# Altium footprint library SparkFun-Connectors.PCBLIB: 327 footprints (part 12 of 21)
Each footprint in its own frame and in the unit in brackets; x right, y up, seen from the top. Pads: shape width x height; smd on the part's side, far side on the other; paste and mask are expansions set on the pad; w line width, h text height; cw(c..) or ccw(c..) is an arc to the next point about the centre after c.
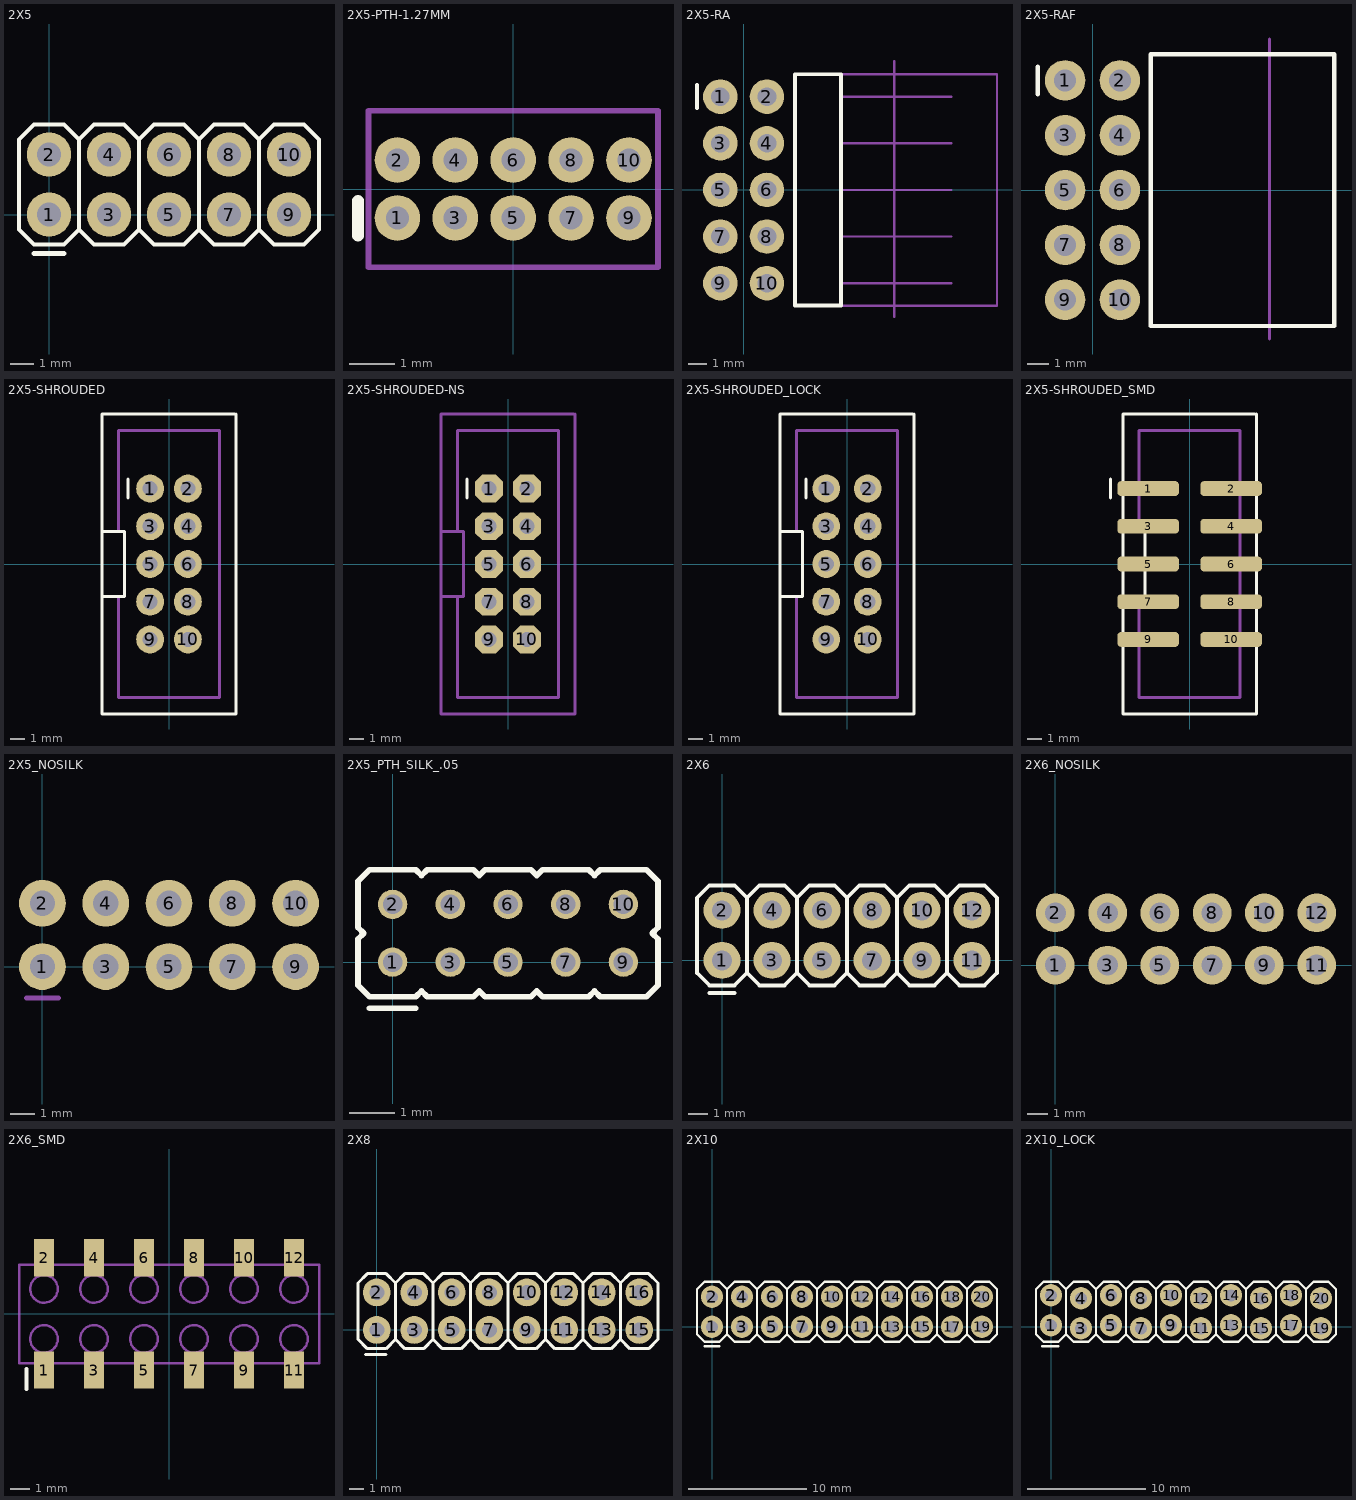
[diagram p11: the footprints below, top view; thin cyan lines are the x and y axes]

## 2X5 [mil]
pads (10):
  round 74 hole 40: 1(0,0) 2(0,100) 3(100,0) 4(100,100) 5(200,0) 6(200,100) 7(300,0) 8(300,100) 9(400,0) 10(400,100)
Top Overlay:
  lines w6: 50,-25 25,-50 -25,-50 -50,-25 -50,125 -25,150 25,150 50,125 ; 50,-25 75,-50 125,-50 150,-25 ; 50,-25 50,125 ; 50,125 75,150 125,150 150,125 ; 150,-25 175,-50 225,-50 250,-25 ; 150,-25 150,125 ; 150,125 175,150 225,150 250,125 ; 250,-25 275,-50 325,-50 350,-25 ; 250,-25 250,125 ; 250,125 275,150 325,150 350,125 ; 350,-25 350,125 ; 350,-25 375,-50 425,-50 450,-25 450,125 425,150 375,150 350,125
  lines w8: -25,-65 25,-65
Bottom Overlay:
  lines w8: -25,-65 25,-65
Mechanical 16:
  region: 10,-10 10,10 -10,10 -10,-10
  region: 10,90 10,110 -10,110 -10,90
  region: 110,90 110,110 90,110 90,90
  region: 110,-10 110,10 90,10 90,-10
  region: 210,90 210,110 190,110 190,90
  region: 210,-10 210,10 190,10 190,-10
  region: 410,90 410,110 390,110 390,90
  region: 410,-10 410,10 390,10 390,-10
  region: 310,-10 310,10 290,10 290,-10
  region: 310,90 310,110 290,110 290,90

## 2X5-PTH-1.27MM [mm]
pads (10):
  round 1 hole 0.508: 1(-2.54,-0.635) 2(-2.54,0.635) 3(-1.27,-0.635) 4(-1.27,0.635) 5(0,-0.635) 6(0,0.635) 7(1.27,-0.635) 8(1.27,0.635) 9(2.54,-0.635) 10(2.54,0.635)
Top Overlay:
  lines w0.254: -3.403,-1.021 -3.403,-0.259
Mechanical 16:
  lines w0.127: -3.175,-1.715 -3.175,1.715 3.175,1.715 3.175,-1.715 -3.175,-1.715

## 2X5-RA [mil]
pads (10):
  round 74 hole 40: 1(-50,200) 2(50,200) 3(-50,100) 4(50,100) 5(-50,0) 6(50,0) 7(-50,-100) 8(50,-100) 9(-50,-200) 10(50,-200)
Top Overlay:
  lines w8: -100,175 -100,225 ; 110.24,-248.03 208.66,-248.03 208.66,248.03 110.24,248.03 110.24,-248.03
Bottom Overlay:
  lines w8: -100,175 -100,225
Mechanical 16:
  region: -60,210 -60,190 -40,190 -40,210
  region: 40,210 40,190 60,190 60,210
  region: 40,110 40,90 60,90 60,110
  region: -60,110 -60,90 -40,90 -40,110
  region: 40,10 40,-10 60,-10 60,10
  region: -60,10 -60,-10 -40,-10 -40,10
  region: 40,-90 40,-110 60,-110 60,-90
  region: -60,-90 -60,-110 -40,-110 -40,-90
  region: 40,-190 40,-210 60,-210 60,-190
  region: -60,-190 -60,-210 -40,-210 -40,-190
  region: -60,-90 -60,-110 -40,-110 -40,-90
  region: 40,-90 40,-110 60,-110 60,-90
  lines w5: 208.66,-248.03 543.31,-248.03 543.31,248.03 208.66,248.03 ; 208.66,-200 444.88,-200 ; 208.66,-100 444.88,-100 ; 208.66,0 444.88,0 ; 208.66,100 444.88,100 ; 208.66,200 444.88,200 ; 322.83,-271.65 322.83,275.59

## 2X5-RAF [mil]
pads (10):
  round 74 hole 40: 1(-50,200) 2(50,200) 3(-50,100) 4(50,100) 5(-50,0) 6(50,0) 7(-50,-100) 8(50,-100) 9(-50,-200) 10(50,-200)
Top Overlay:
  lines w8: -100,175 -100,225 ; 106.3,-248.03 440.94,-248.03 440.94,248.03 106.3,248.03 106.3,-248.03
Bottom Overlay:
  lines w8: -100,175 -100,225
Mechanical 16:
  region: -60,210 -60,190 -40,190 -40,210
  region: 40,210 40,190 60,190 60,210
  region: 40,110 40,90 60,90 60,110
  region: -60,110 -60,90 -40,90 -40,110
  region: 40,10 40,-10 60,-10 60,10
  region: -60,10 -60,-10 -40,-10 -40,10
  region: 40,-90 40,-110 60,-110 60,-90
  region: -60,-90 -60,-110 -40,-110 -40,-90
  region: 40,-190 40,-210 60,-210 60,-190
  region: -60,-190 -60,-210 -40,-210 -40,-190
  region: -60,-90 -60,-110 -40,-110 -40,-90
  region: 40,-90 40,-110 60,-110 60,-90
  lines w5: 322.83,-271.65 322.83,275.59

## 2X5-SHROUDED [mil]
pads (10):
  round 74 hole 40: 1(-50,200) 2(50,200) 3(-50,100) 4(50,100) 5(-50,0) 6(50,0) 7(-50,-100) 8(50,-100) 9(-50,-200) 10(50,-200)
Top Overlay:
  lines w8: -109.25,175 -109.25,225 ; 173.23,397.64 -177.17,397.64 -177.17,86.61 ; 177.17,397.64 177.17,-397.64 -177.17,-397.64 -177.17,-86.61 ; -177.17,-86.61 -177.17,86.61 ; -177.17,-86.61 -118.11,-86.61 -118.11,86.61 -177.17,86.61
Bottom Overlay:
  lines w8: -110.75,175 -110.75,225
Mechanical 16:
  rectangle: -60,190 -40,210
  rectangle: 40,190 60,210
  rectangle: 40,90 60,110
  rectangle: -60,90 -40,110
  rectangle: 40,-10 60,10
  rectangle: -60,-10 -40,10
  rectangle: 40,-110 60,-90
  rectangle: -60,-110 -40,-90
  rectangle: 40,-210 60,-190
  rectangle: -60,-210 -40,-190
  rectangle: -60,-110 -40,-90
  rectangle: 40,-110 60,-90
  lines w8: -133.86,-86.61 -133.86,-354.33 133.86,-354.33 133.86,354.33 -133.86,354.33 -133.86,86.61

## 2X5-SHROUDED-NS [mil]
pads (10):
  oct 74x74 hole 40: 1(-50,200) 2(50,200) 3(-50,100) 4(50,100) 5(-50,0) 6(50,0) 7(-50,-100) 8(50,-100) 9(-50,-200) 10(50,-200)
Top Overlay:
  lines w8: -109.25,175 -109.25,225
Bottom Overlay:
  lines w8: -110.75,175 -110.75,225
Mechanical 16:
  rectangle: -60,190 -40,210
  rectangle: 40,190 60,210
  rectangle: 40,90 60,110
  rectangle: -60,90 -40,110
  rectangle: 40,-10 60,10
  rectangle: -60,-10 -40,10
  rectangle: 40,-110 60,-90
  rectangle: -60,-110 -40,-90
  rectangle: 40,-210 60,-190
  rectangle: -60,-210 -40,-190
  rectangle: -60,-110 -40,-90
  rectangle: 40,-110 60,-90
  lines w8: -133.86,-86.61 -133.86,-354.33 133.86,-354.33 133.86,354.33 -133.86,354.33 -133.86,86.61 ; 173.23,397.64 -177.17,397.64 -177.17,86.61 ; 177.17,397.64 177.17,-397.64 -177.17,-397.64 -177.17,-86.61 ; -177.17,-86.61 -177.17,86.61 ; -177.17,-86.61 -118.11,-86.61 -118.11,86.61 -177.17,86.61

## 2X5-SHROUDED_LOCK [mil]
pads (10):
  round 74 hole 40: 1(-55,200) 2(55,200) 3(-55,100) 4(55,100) 5(-55,0) 6(55,0) 7(-55,-100) 8(55,-100) 9(-55,-200) 10(55,-200)
Top Overlay:
  lines w8: -109.25,175 -109.25,225 ; 173.23,397.64 -177.17,397.64 -177.17,86.61 ; 177.17,397.64 177.17,-397.64 -177.17,-397.64 -177.17,-86.61 ; -177.17,-86.61 -177.17,86.61 ; -177.17,-86.61 -118.11,-86.61 -118.11,86.61 -177.17,86.61
Bottom Overlay:
  lines w8: -110.75,175 -110.75,225
Mechanical 16:
  region: -60,210 -60,190 -40,190 -40,210
  region: 40,210 40,190 60,190 60,210
  region: 40,110 40,90 60,90 60,110
  region: -60,110 -60,90 -40,90 -40,110
  region: 40,10 40,-10 60,-10 60,10
  region: -60,10 -60,-10 -40,-10 -40,10
  region: 40,-90 40,-110 60,-110 60,-90
  region: -60,-90 -60,-110 -40,-110 -40,-90
  region: 40,-190 40,-210 60,-210 60,-190
  region: -60,-190 -60,-210 -40,-210 -40,-190
  region: -60,-90 -60,-110 -40,-110 -40,-90
  region: 40,-90 40,-110 60,-110 60,-90
  lines w8: -133.86,-86.61 -133.86,-354.33 133.86,-354.33 133.86,354.33 -133.86,354.33 -133.86,86.61

## 2X5-SHROUDED_SMD [mil]
pads (10):
  rrect50% 163.39x39.37 smd: 1(-110,200) 2(110,200) 3(-110,100) 4(110,100) 5(-110,0) 6(110,0) 7(-110,-100) 8(110,-100) 9(-110,-200) 10(110,-200)
Top Overlay:
  lines w8: -209.25,175 -209.25,225 ; 173.23,397.64 -177.17,397.64 -177.17,86.61 ; 177.17,397.64 177.17,-397.64 -177.17,-397.64 -177.17,-86.61 ; -177.17,-86.61 -177.17,86.61 ; -177.17,-86.61 -118.11,-86.61 -118.11,86.61 -177.17,86.61
Bottom Overlay:
  lines w8: -210.75,175 -210.75,225
Mechanical 16:
  rectangle: -60,190 -40,210
  rectangle: 40,190 60,210
  rectangle: 40,90 60,110
  rectangle: -60,90 -40,110
  rectangle: 40,-10 60,10
  rectangle: -60,-10 -40,10
  rectangle: 40,-110 60,-90
  rectangle: -60,-110 -40,-90
  rectangle: 40,-210 60,-190
  rectangle: -60,-210 -40,-190
  rectangle: -60,-110 -40,-90
  rectangle: 40,-110 60,-90
  lines w8: -133.86,-86.61 -133.86,-354.33 133.86,-354.33 133.86,354.33 -133.86,354.33 -133.86,86.61

## 2X5_NOSILK [mil]
pads (10):
  round 74 hole 40: 1(0,0) 2(0,100) 3(100,0) 4(100,100) 5(200,0) 6(200,100) 7(300,0) 8(300,100) 9(400,0) 10(400,100)
Mechanical 16:
  region: 10,-10 10,10 -10,10 -10,-10
  region: 10,90 10,110 -10,110 -10,90
  region: 110,90 110,110 90,110 90,90
  region: 110,-10 110,10 90,10 90,-10
  region: 210,-10 210,10 190,10 190,-10
  region: 410,90 410,110 390,110 390,90
  region: 410,-10 410,10 390,10 390,-10
  region: 310,-10 310,10 290,10 290,-10
  region: 310,90 310,110 290,110 290,90
  region: 210,90 210,110 190,110 190,90
  lines w8: -25,-50 25,-50

## 2X5_PTH_SILK_.05 [mil]
pads (10):
  round 25.5 hole 17: 1(0,0) 2(0,50) 3(50,0) 4(50,50) 5(100,0) 6(100,50) 7(150,0) 8(150,50) 9(200,0) 10(200,50)
Top Overlay:
  lines w5: -20,-40 20,-40 ; -30,-20 -20,-30 20,-30 25,-25 30,-30 70,-30 75,-25 80,-30 120,-30 125,-25 130,-30 170,-30 175,-25 180,-30 220,-30 230,-20 230,20 225,25 230,30 230,70 220,80 180,80 175,75 170,80 130,80 125,75 120,80 80,80 75,75 70,80 30,80 25,75 20,80 -20,80 -30,70 -30,30 -25,25 -30,20 -30,-20
Bottom Overlay:
  lines w5: -20,-40 20,-40

## 2X6 [mil]
pads (12):
  round 74 hole 40: 1(0,0) 2(0,100) 3(100,0) 4(100,100) 5(200,0) 6(200,100) 7(300,0) 8(300,100) 9(400,0) 10(400,100) 11(500,0) 12(500,100)
Top Overlay:
  lines w8: -25,-65 25,-65 ; -50,-25 -25,-50 ; -50,-25 -50,125 ; -50,-25 -25,-50 ; -50,-25 -50,125 ; -50,-25 -25,-50 ; -50,-25 -50,125 ; -50,125 -25,150 ; -50,125 -25,150 ; -50,125 -25,150 ; -25,-50 25,-50 50,-25 ; -25,150 25,150 50,125 ; 50,-25 75,-50 125,-50 150,-25 ; 50,-25 50,125 ; 50,125 75,150 125,150 150,125 ; 150,-25 175,-50 225,-50 250,-25 ; 150,-25 150,125 ; 150,125 175,150 225,150 250,125 ; 250,-25 275,-50 325,-50 350,-25 ; 250,-25 250,125 ; 250,125 275,150 325,150 350,125 ; 350,-25 375,-50 425,-50 450,-25 ; 350,-25 350,125 ; 350,125 375,150 425,150 450,125 ; 450,-25 475,-50 525,-50 550,-25 550,125 525,150 475,150 450,125 ; 450,-25 450,125
Bottom Overlay:
  lines w8: -25,-65 25,-65
Mechanical 16:
  rectangle: -10,-10 10,10
  rectangle: -10,90 10,110
  rectangle: 90,90 110,110
  rectangle: 90,-10 110,10
  rectangle: 190,90 210,110
  rectangle: 190,-10 210,10
  rectangle: 290,90 310,110
  rectangle: 390,90 410,110
  rectangle: 490,90 510,110
  rectangle: 290,-10 310,10
  rectangle: 390,-10 410,10
  rectangle: 490,-10 510,10

## 2X6_NOSILK [mil]
pads (12):
  round 74 hole 40: 1(0,0) 2(0,100) 3(100,0) 4(100,100) 5(200,0) 6(200,100) 7(300,0) 8(300,100) 9(400,0) 10(400,100) 11(500,0) 12(500,100)
Mechanical 16:
  rectangle: -10,-10 10,10
  rectangle: -10,90 10,110
  rectangle: 90,90 110,110
  rectangle: 90,-10 110,10
  rectangle: 190,90 210,110
  rectangle: 190,-10 210,10
  rectangle: 290,90 310,110
  rectangle: 390,90 410,110
  rectangle: 490,90 510,110
  rectangle: 290,-10 310,10
  rectangle: 390,-10 410,10
  rectangle: 490,-10 510,10

## 2X6_SMD [mil]
pads (12):
  rect 40.16x74.8 smd: 1(-250,-112.2) 2(-250,112.2) 3(-150,-112.2) 4(-150,112.2) 5(-50,-112.2) 6(-50,112.2) 7(50,-112.2) 8(50,112.2) 9(150,-112.2) 10(150,112.2) 11(250,-112.2) 12(250,112.2)
Top Overlay:
  lines w8: -285,-150 -285,-110
Mechanical 16:
  circle w5: c-150,50 r27.56
  circle w5: c-250,50 r27.56
  circle w5: c-250,-50 r27.56
  circle w5: c-150,-50 r27.56
  circle w5: c-50,-50 r27.56
  circle w5: c-50,50 r27.56
  circle w5: c50,-50 r27.56
  circle w5: c50,50 r27.56
  circle w5: c150,-50 r27.56
  circle w5: c150,50 r27.56
  circle w5: c250,-50 r27.56
  circle w5: c250,50 r27.56
  rectangle: -161.81,100.39 -138.19,131.89
  rectangle: -261.81,100.39 -238.19,131.89
  rectangle: -61.81,100.39 -38.19,131.89
  region: -238.19,-100.39 -261.81,-100.39 -261.81,-131.89 -238.19,-131.89
  region: -138.19,-100.39 -161.81,-100.39 -161.81,-131.89 -138.19,-131.89
  region: -38.19,-100.39 -61.81,-100.39 -61.81,-131.89 -38.19,-131.89
  rectangle: 38.19,100.39 61.81,131.89
  region: 61.81,-100.39 38.19,-100.39 38.19,-131.89 61.81,-131.89
  rectangle: 138.19,100.39 161.81,131.89
  region: 161.81,-100.39 138.19,-100.39 138.19,-131.89 161.81,-131.89
  rectangle: 238.19,100.39 261.81,131.89
  region: 261.81,-100.39 238.19,-100.39 238.19,-131.89 261.81,-131.89
  lines w5: -300,-98.43 -300,98.43 300,98.43 300,-98.43 -300,-98.43

## 2X8 [mil]
pads (16):
  round 74 hole 40: 1(0,0) 2(0,100) 3(100,0) 4(100,100) 5(200,0) 6(200,100) 7(300,0) 8(300,100) 9(400,0) 10(400,100) 11(500,0) 12(500,100) 13(600,0) 14(600,100) 15(700,0) 16(700,100)
Top Overlay:
  lines w8: -30,-65 25,-65 ; 50,-25 25,-50 -25,-50 -50,-25 -50,125 -25,150 25,150 50,125 ; 50,-25 75,-50 125,-50 150,-25 ; 50,-25 50,125 ; 50,125 75,150 125,150 150,125 ; 150,-25 175,-50 225,-50 250,-25 ; 150,-25 150,125 ; 150,125 175,150 225,150 250,125 ; 250,-25 275,-50 325,-50 350,-25 ; 250,-25 250,125 ; 250,125 275,150 325,150 350,125 ; 350,-25 375,-50 425,-50 450,-25 ; 350,-25 350,125 ; 350,125 375,150 425,150 450,125 ; 450,-25 475,-50 525,-50 550,-25 ; 450,-25 450,125 ; 450,125 475,150 525,150 550,125 ; 550,-25 575,-50 625,-50 650,-25 ; 550,-25 550,125 ; 550,125 575,150 625,150 650,125 ; 650,-25 675,-50 725,-50 750,-25 750,125 725,150 675,150 650,125 ; 650,-25 650,125
Bottom Overlay:
  lines w8: -30,-65 25,-65
Mechanical 16:
  rectangle: -10,-10 10,10
  rectangle: -10,90 10,110
  rectangle: 90,90 110,110
  rectangle: 90,-10 110,10
  rectangle: 190,90 210,110
  rectangle: 190,-10 210,10
  rectangle: 290,90 310,110
  rectangle: 390,90 410,110
  rectangle: 490,90 510,110
  rectangle: 290,-10 310,10
  rectangle: 390,-10 410,10
  rectangle: 490,-10 510,10
  rectangle: 590,90 610,110
  rectangle: 590,-10 610,10
  rectangle: 690,90 710,110
  rectangle: 690,-10 710,10

## 2X10 [mil]
pads (20):
  round 74 hole 40: 1(0,0) 2(0,100) 3(100,0) 4(100,100) 5(200,0) 6(200,100) 7(300,0) 8(300,100) 9(400,0) 10(400,100) 11(500,0) 12(500,100) 13(600,0) 14(600,100) 15(700,0) 16(700,100) 17(800,0) 18(800,100) 19(900,0) 20(900,100)
Top Overlay:
  lines w8: -25,-65 25,-65 ; 50,-25 25,-50 -25,-50 -50,-25 -50,125 -25,150 25,150 50,125 ; 50,-25 75,-50 125,-50 150,-25 ; 50,-25 50,125 ; 50,125 75,150 125,150 150,125 ; 150,-25 175,-50 225,-50 250,-25 ; 150,-25 150,125 ; 150,125 175,150 225,150 250,125 ; 250,-25 275,-50 325,-50 350,-25 ; 250,-25 250,125 ; 250,125 275,150 325,150 350,125 ; 350,-25 375,-50 425,-50 450,-25 ; 350,-25 350,125 ; 350,125 375,150 425,150 450,125 ; 450,-25 475,-50 525,-50 550,-25 ; 450,-25 450,125 ; 450,125 475,150 525,150 550,125 ; 550,-25 575,-50 625,-50 650,-25 ; 550,-25 550,125 ; 550,125 575,150 625,150 650,125 ; 650,-25 675,-50 725,-50 750,-25 ; 650,-25 650,125 ; 650,125 675,150 725,150 750,125 ; 750,-25 775,-50 825,-50 850,-25 ; 750,-25 750,125 ; 750,125 775,150 825,150 850,125 ; 850,-25 850,125 ; 850,-25 875,-50 925,-50 950,-25 950,125 925,150 875,150 850,125
Bottom Overlay:
  lines w8: -25,-65 25,-65
Mechanical 16:
  rectangle: -10,-10 10,10
  rectangle: -10,90 10,110
  rectangle: 90,90 110,110
  rectangle: 90,-10 110,10
  rectangle: 190,90 210,110
  rectangle: 190,-10 210,10
  rectangle: 290,90 310,110
  rectangle: 390,90 410,110
  rectangle: 490,90 510,110
  rectangle: 290,-10 310,10
  rectangle: 390,-10 410,10
  rectangle: 490,-10 510,10
  rectangle: 590,90 610,110
  rectangle: 590,-10 610,10
  rectangle: 690,90 710,110
  rectangle: 690,-10 710,10
  rectangle: 790,90 810,110
  rectangle: 790,-10 810,10
  rectangle: 890,90 910,110
  rectangle: 890,-10 910,10

## 2X10_LOCK [mil]
pads (20):
  round 74 hole 40: 1(0,5) 2(0,105) 3(100,-5) 4(100,95) 5(200,5) 6(200,105) 7(300,-5) 8(300,95) 9(400,5) 10(400,105) 11(500,-5) 12(500,95) 13(600,5) 14(600,105) 15(700,-5) 16(700,95) 17(800,5) 18(800,105) 19(900,-5) 20(900,95)
Top Overlay:
  lines w8: -30,-65 25,-65 ; 50,-25 25,-50 -25,-50 -50,-25 -50,125 -25,150 25,150 50,125 ; 50,-25 75,-50 125,-50 150,-25 ; 50,-25 50,125 ; 50,125 75,150 125,150 150,125 ; 150,-25 175,-50 225,-50 250,-25 ; 150,-25 150,125 ; 150,125 175,150 225,150 250,125 ; 250,-25 275,-50 325,-50 350,-25 ; 250,-25 250,125 ; 250,125 275,150 325,150 350,125 ; 350,-25 375,-50 425,-50 450,-25 ; 350,-25 350,125 ; 350,125 375,150 425,150 450,125 ; 450,-25 475,-50 525,-50 550,-25 ; 450,-25 450,125 ; 450,125 475,150 525,150 550,125 ; 550,-25 575,-50 625,-50 650,-25 ; 550,-25 550,125 ; 550,125 575,150 625,150 650,125 ; 650,-25 675,-50 725,-50 750,-25 ; 650,-25 650,125 ; 650,125 675,150 725,150 750,125 ; 750,-25 775,-50 825,-50 850,-25 ; 750,-25 750,125 ; 750,125 775,150 825,150 850,125 ; 850,-25 850,125 ; 850,-25 875,-50 925,-50 950,-25 950,125 925,150 875,150 850,125
Bottom Overlay:
  lines w8: -30,-65 25,-65
Mechanical 16:
  rectangle: -10,-10 10,10
  rectangle: -10,90 10,110
  rectangle: 90,90 110,110
  rectangle: 90,-10 110,10
  rectangle: 190,90 210,110
  rectangle: 190,-10 210,10
  rectangle: 290,90 310,110
  rectangle: 390,90 410,110
  rectangle: 490,90 510,110
  rectangle: 290,-10 310,10
  rectangle: 390,-10 410,10
  rectangle: 490,-10 510,10
  rectangle: 590,90 610,110
  rectangle: 590,-10 610,10
  rectangle: 690,90 710,110
  rectangle: 690,-10 710,10
  rectangle: 790,90 810,110
  rectangle: 790,-10 810,10
  rectangle: 890,90 910,110
  rectangle: 890,-10 910,10